# Altium footprint library Miscellaneous Devices LC.PcbLib: 559 footprints (part 21 of 35)
Each footprint in its own frame and in the unit in brackets; x right, y up, seen from the top. Pads: shape width x height; smd on the part's side, far side on the other; paste and mask are expansions set on the pad; w line width, h text height; cw(c..) or ccw(c..) is an arc to the next point about the centre after c.
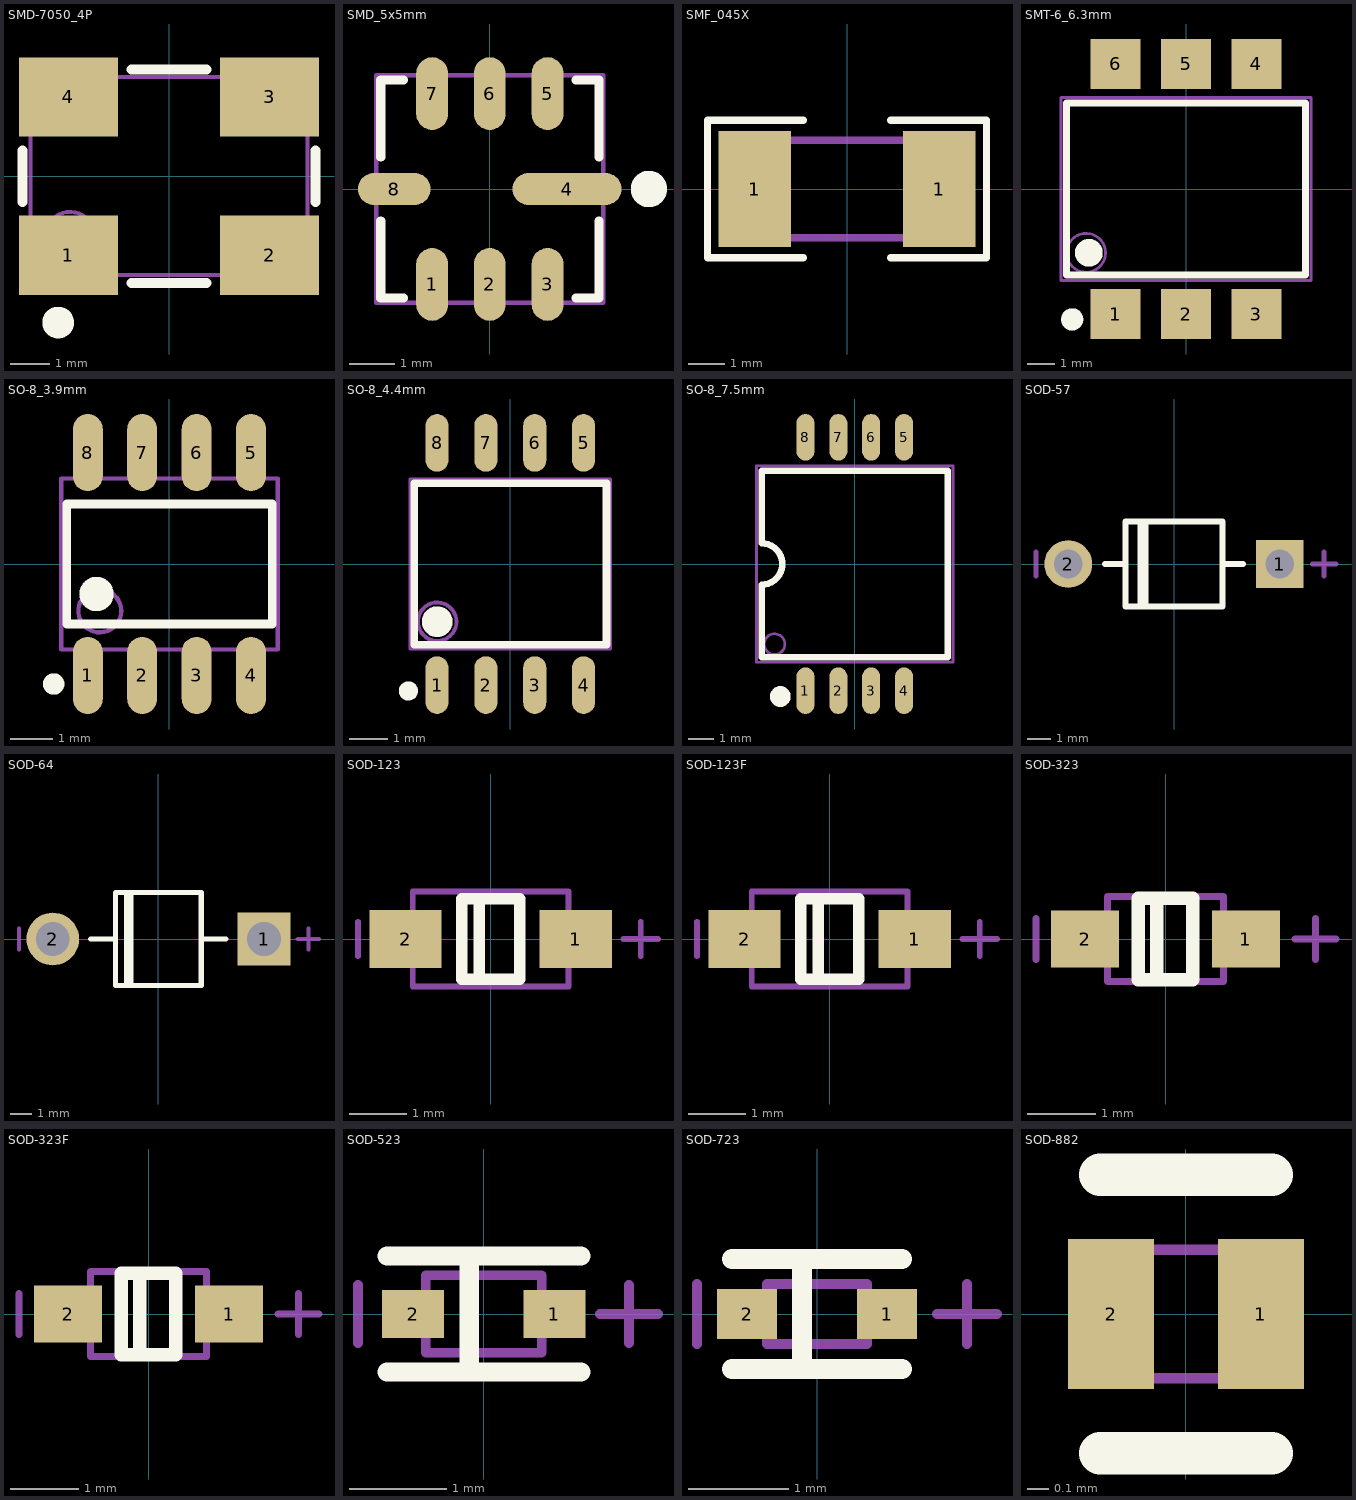
[diagram p20: the footprints below, top view; thin cyan lines are the x and y axes]

## SMD-7050_4P [mm]
pads (4):
  rect 2.5x2 smd: 1(-2.54,-2) 2(2.54,-2) 3(2.54,2) 4(-2.54,2)
Top Overlay:
  circle w0.4: c-2.8,-3.7 r0.2
  lines w0.254: -3.7,-0.65 -3.7,0.65 ; -0.95,-2.7 0.95,-2.7 ; -0.95,2.7 0.95,2.7 ; 3.7,-0.65 3.7,0.65
Mechanical 13:
  circle w0.1: c-2.5,-1.5 r0.6
  lines w0.1: -3.5,-2.5 3.5,-2.5 3.5,2.5 -3.5,2.5 -3.5,-2.5

## SMD_5x5mm [mm]
pads (8):
  oval 0.7x1.6 smd mask+0.051: 1(-1.27,-2.1) 2(0,-2.1) 3(1.27,-2.1) 5(1.27,2.1) 6(0,2.1) 7(-1.27,2.1)
  oval 2.4x0.7 smd mask+0.051: 4(1.7,0)
  oval 1.6x0.7 smd mask+0.051: 8(-2.1,0)
Top Overlay:
  circle w0.4: c3.5,0 r0.2
  lines w0.2: -2.4,-0.7 -2.4,-2.4 -1.9,-2.4 ; -2.4,0.7 -2.4,2.4 -1.9,2.4 ; 1.9,-2.4 2.4,-2.4 2.4,-0.7 ; 1.9,2.4 2.4,2.4 2.4,0.7
Mechanical 13:
  lines w0.1: -2.5,-2.5 2.5,-2.5 2.5,2.5 -2.5,2.5 -2.5,-2.5

## SMF_045X [mm]
pads (2):
  rect 2x3.2 smd: 1(-2.55,0) 1(2.55,0)
Top Overlay:
  lines w0.2: -1.2,-1.9 -3.861,-1.9 -3.861,1.9 -1.2,1.9 ; 1.2,-1.9 3.861,-1.9 3.861,1.9 1.2,1.9
Mechanical 13:
  lines w0.2: -3.05,-1.35 -3.05,1.35 3.05,1.35 3.05,-1.35 -3.05,-1.35

## SMT-6_6.3mm [mm]
pads (6):
  rect 1.8x1.8 smd: 1(-2.54,-4.505) 2(0,-4.505) 3(2.54,-4.505) 4(2.54,4.505) 5(0,4.505) 6(-2.54,4.505)
Top Overlay:
  circle w0.5: c-3.5,-2.3 r0.25
  circle w0.4: c-4.1,-4.7 r0.2
  lines w0.254: -4.3,-3.1 -4.3,3.1 4.3,3.1 4.3,-3.1 -4.3,-3.1
Mechanical 13:
  circle w0.1: c-3.6,-2.3 r0.7
  lines w0.1: -4.5,-3.3 -4.5,3.3 4.5,3.3 4.5,-3.3 -4.5,-3.3

## SO-8_3.9mm [mm]
pads (8):
  oval 0.7x1.8 smd: 1(-1.905,-2.6) 2(-0.635,-2.6) 3(0.635,-2.6) 4(1.905,-2.6) 5(1.905,2.6) 6(0.635,2.6) 7(-0.635,2.6) 8(-1.905,2.6)
Top Overlay:
  circle w0.4: c-1.7,-0.7 r0.2
  circle w0.25: c-2.7,-2.8 r0.125
  lines w0.2: -2.4,-1.4 2.4,-1.4 2.4,1.4 -2.4,1.4 -2.4,-1.4
Mechanical 13:
  circle w0.1: c-1.625,-1.095 r0.5
  lines w0.1: -2.525,-1.995 2.525,-1.995 2.525,1.995 -2.525,1.995 -2.525,-1.995

## SO-8_4.4mm [mm]
pads (8):
  oval 0.6x1.5 smd: 1(-1.905,-3.15) 2(-0.635,-3.15) 3(0.635,-3.15) 4(1.905,-3.15) 5(1.905,3.15) 6(0.635,3.15) 7(-0.635,3.15) 8(-1.905,3.15)
Top Overlay:
  circle w0.4: c-1.9,-1.5 r0.2
  circle w0.25: c-2.65,-3.3 r0.125
  lines w0.2: -2.5,-2.1 2.5,-2.1 2.5,2.1 -2.5,2.1 -2.5,-2.1
Mechanical 13:
  circle w0.1: c-1.9,-1.5 r0.5
  lines w0.1: -2.6,-2.2 2.6,-2.2 2.6,2.2 -2.6,2.2 -2.6,-2.2

## SO-8_7.5mm [mm]
pads (8):
  oval 0.7x1.8 smd: 1(-1.905,-4.9) 2(-0.635,-4.9) 3(0.635,-4.9) 4(1.905,-4.9) 5(1.905,4.9) 6(0.635,4.9) 7(-0.635,4.9) 8(-1.905,4.9)
Top Overlay:
  circle w0.4: c-2.875,-5.125 r0.2
  lines w0.254: -3.6,-3.6 3.6,-3.6 3.6,3.6 -3.6,3.6 -3.6,0.8 cw(c-3.6,0) -3.6,-0.8 -3.6,-3.6
Mechanical 13:
  circle w0.1: c-3.1,-3.1 r0.4
  lines w0.1: -3.8,-3.8 3.8,-3.8 3.8,3.8 -3.8,3.8 -3.8,-3.8

## SOD-57 [mm]
pads (2):
  rect 2x2 hole 1.2: 1(4.445,0)
  round 2 hole 1.2: 2(-4.445,0)
Top Overlay:
  lines w0.254: -2.9,0 -2.032,0 ; -1.4,-1.778 -1.4,1.778 ; -1.2,-1.778 -1.2,1.778 ; 2.032,0 2.9,0 ; -2.032,-1.778 -2.032,1.778 2.032,1.778 2.032,-1.778 -2.032,-1.778
Mechanical 15:
  lines w0.203: -5.8,-0.5 -5.8,0.5 ; 5.8,0 6.8,0 ; 6.3,-0.5 6.3,0.5

## SOD-64 [mm]
pads (2):
  rect 2.5x2.5 hole 1.6: 1(5,0)
  round 2.5 hole 1.6: 2(-5,0)
Top Overlay:
  lines w0.254: -3.2,0 -2.032,0 ; -1.5,-2.2 -1.5,2.2 ; -1.3,-2.2 -1.3,2.2 ; 2.032,0 3.2,0 ; -2.032,-2.2 -2.032,2.2 2.032,2.2 2.032,-2.2 -2.032,-2.2
Mechanical 15:
  lines w0.203: -6.6,-0.5 -6.6,0.5 ; 6.6,0 7.6,0 ; 7.1,-0.5 7.1,0.5

## SOD-123 [mm]
pads (2):
  rect 1.25x1 smd: 1(1.475,0) 2(-1.475,0)
Top Overlay:
  lines w0.2: -0.2,-0.7 -0.2,0.7 ; -0.5,-0.7 0.5,-0.7 0.5,0.7 -0.5,0.7 -0.5,-0.7
Mechanical 13:
  lines w0.1: -1.35,-0.825 -1.35,0.825 1.35,0.825 1.35,-0.825 -1.35,-0.825
Mechanical 15:
  lines w0.1: -2.3,-0.3 -2.3,0.3 ; 2.3,0 2.9,0 ; 2.6,-0.3 2.6,0.3
3D body "SOD123.STEP": height 1.35, standoff 0, extent -1.85,-0.775 1.85,0.775

## SOD-123F [mm]
pads (2):
  rect 1.25x1 smd: 1(1.475,0) 2(-1.475,0)
Top Overlay:
  lines w0.2: -0.2,-0.7 -0.2,0.7 ; -0.5,-0.7 -0.5,0.7 0.5,0.7 0.5,-0.7 -0.5,-0.7
Mechanical 13:
  lines w0.1: -1.35,-0.825 1.35,-0.825 1.35,0.825 -1.35,0.825 -1.35,-0.825
Mechanical 15:
  lines w0.1: -2.3,-0.3 -2.3,0.3 ; 2.3,0 2.9,0 ; 2.6,-0.3 2.6,0.3
3D body "SOD123F.STEP": height 1.2, standoff -0.01, extent -1.9,-0.849 1.85,0.85

## SOD-323 [mm]
pads (2):
  rect 1x0.83 smd: 1(1.18,0) 2(-1.18,0)
Top Overlay:
  lines w0.2: -0.13,-0.6 -0.13,0.6 ; -0.4,-0.6 0.4,-0.6 0.4,0.6 -0.4,0.6 -0.4,-0.6
Mechanical 13:
  lines w0.1: -0.85,-0.625 0.85,-0.625 0.85,0.625 -0.85,0.625 -0.85,-0.625
Mechanical 15:
  lines w0.1: -1.9,-0.3 -1.9,0.3 ; 1.9,0 2.5,0 ; 2.2,-0.3 2.2,0.3
3D body "SOD323.STEP": height 1.1, standoff 0, extent -1.35,-0.625 1.35,0.625

## SOD-323F [mm]
pads (2):
  rect 1x0.83 smd: 1(1.18,0) 2(-1.18,0)
Top Overlay:
  lines w0.2: -0.13,-0.6 -0.13,0.6 ; -0.4,-0.6 -0.4,0.6 0.4,0.6 0.4,-0.6 -0.4,-0.6
Mechanical 13:
  lines w0.1: -0.85,-0.625 0.85,-0.625 0.85,0.625 -0.85,0.625 -0.85,-0.625
Mechanical 15:
  lines w0.1: -1.9,-0.3 -1.9,0.3 ; 1.9,0 2.5,0 ; 2.2,-0.3 2.2,0.3
3D body "SOD323F.STEP": height 0.75, standoff -0.01, extent -1.4,-0.675 1.4,0.675

## SOD-523 [mm]
pads (2):
  rect 0.64x0.5 smd: 1(0.73,0) 2(-0.73,0)
Top Overlay:
  lines w0.2: -1,-0.6 1,-0.6 ; -1,0.6 1,0.6 ; -0.15,-0.575 -0.15,0.6
Mechanical 13:
  lines w0.1: -0.6,-0.4 -0.6,0.4 0.6,0.4 0.6,-0.4 -0.6,-0.4
Mechanical 15:
  lines w0.1: -1.3,-0.3 -1.3,0.3 ; 1.2,0 1.8,0 ; 1.5,-0.3 1.5,0.3
3D body "SOD523.STEP": height 0.7, standoff 0, extent -0.8,-0.399 0.8,0.399

## SOD-723 [mm]
pads (2):
  rect 0.6x0.5 smd: 1(0.7,0) 2(-0.7,0)
Top Overlay:
  lines w0.2: -0.85,-0.55 0.85,-0.55 ; -0.85,0.55 0.85,0.55 ; -0.15,-0.55 -0.15,0.55
Mechanical 13:
  lines w0.1: -0.5,-0.3 -0.5,0.3 0.5,0.3 0.5,-0.3 -0.5,-0.3
Mechanical 15:
  lines w0.1: -1.2,-0.3 -1.2,0.3 ; 1.2,0 1.8,0 ; 1.5,-0.3 1.5,0.3

## SOD-882 [mm]
pads (2):
  rect 0.4x0.7 smd mask+0.051: 1(0.35,0) 2(-0.35,0)
Top Overlay:
  lines w0.2: -0.4,-0.65 0.4,-0.65 ; -0.4,0.65 0.4,0.65
Mechanical 13:
  lines w0.05: -0.5,-0.3 0.5,-0.3 0.5,0.3 -0.5,0.3 -0.5,-0.3